# EAGLE library part CY62147GE30-45BVXI (library circuit_tree)
IC
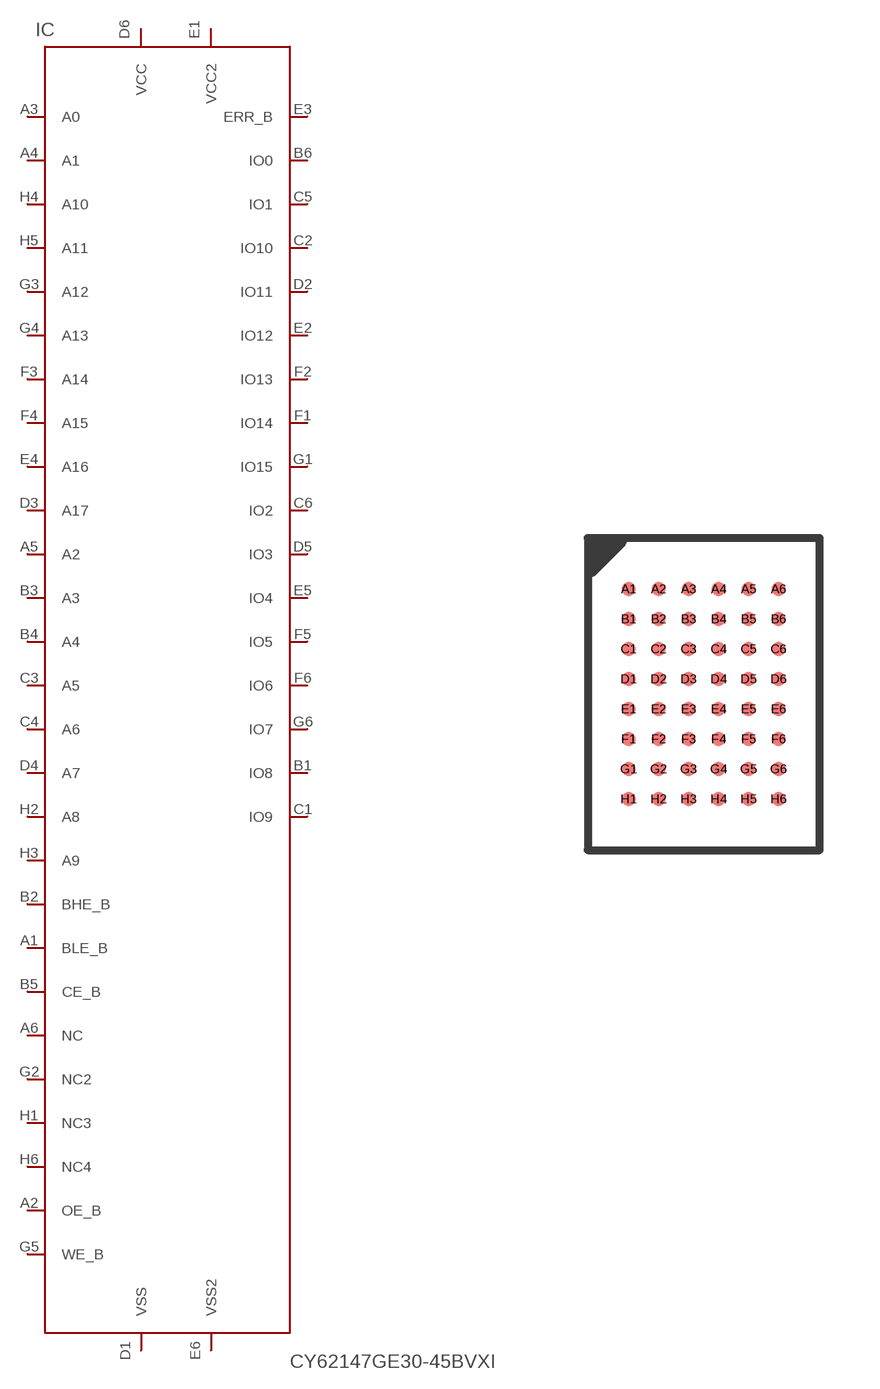
[diagram p2: symbol with the pads of VFBGA48; footprint VFBGA48]

Designator prefix IC

## CY62147GE30-45BVXI  [VFBGA48]
A1  BLE_B  pas
A2  OE_B  pas
A3  A0  pas
A4  A1  pas
A5  A2  pas
A6  NC  pas
B1  IO8  pas
B2  BHE_B  pas
B3  A3  pas
B4  A4  pas
B5  CE_B  pas
B6  IO0  pas
C1  IO9  pas
C2  IO10  pas
C3  A5  pas
C4  A6  pas
C5  IO1  pas
C6  IO2  pas
D1  VSS  pas
D2  IO11  pas
D3  A17  pas
D4  A7  pas
D5  IO3  pas
D6  VCC  pas
E1  VCC2  pas
E2  IO12  pas
E3  ERR_B  pas
E4  A16  pas
E5  IO4  pas
E6  VSS2  pas
F1  IO14  pas
F2  IO13  pas
F3  A14  pas
F4  A15  pas
F5  IO5  pas
F6  IO6  pas
G1  IO15  pas
G2  NC2  pas
G3  A12  pas
G4  A13  pas
G5  WE_B  pas
G6  IO7  pas
H1  NC3  pas
H2  A8  pas
H3  A9  pas
H4  A10  pas
H5  A11  pas
H6  NC4  pas

## Footprint VFBGA48 (pad centres in mm)
48-ball VFBGA (6 x 8 x 1 mm) (51-85150) Source: Cypress CYP05780611.pdf
smd 0.35 x 0.35: A1 -1.875,2.625; A2 -1.125,2.625; A3 -0.375,2.625; A4 0.375,2.625; A5 1.125,2.625; A6 1.875,2.625; B1 -1.875,1.875; B2 -1.125,1.875; B3 -0.375,1.875; B4 0.375,1.875; B5 1.125,1.875; B6 1.875,1.875; C1 -1.875,1.125; C2 -1.125,1.125; C3 -0.375,1.125; C4 0.375,1.125; C5 1.125,1.125; C6 1.875,1.125; D1 -1.875,0.375; D2 -1.125,0.375; D3 -0.375,0.375; D4 0.375,0.375; D5 1.125,0.375; D6 1.875,0.375; E1 -1.875,-0.375; E2 -1.125,-0.375; E3 -0.375,-0.375; E4 0.375,-0.375; E5 1.125,-0.375; E6 1.875,-0.375; F1 -1.875,-1.125; F2 -1.125,-1.125; F3 -0.375,-1.125; F4 0.375,-1.125; F5 1.125,-1.125; F6 1.875,-1.125; G1 -1.875,-1.875; G2 -1.125,-1.875; G3 -0.375,-1.875; G4 0.375,-1.875; G5 1.125,-1.875; G6 1.875,-1.875; H1 -1.875,-2.625; H2 -1.125,-2.625; H3 -0.375,-2.625; H4 0.375,-2.625; H5 1.125,-2.625; H6 1.875,-2.625